# EAGLE library part 1998933 (library con-phoenix-1016)
PC 6-16/2-G1-10,16 Series
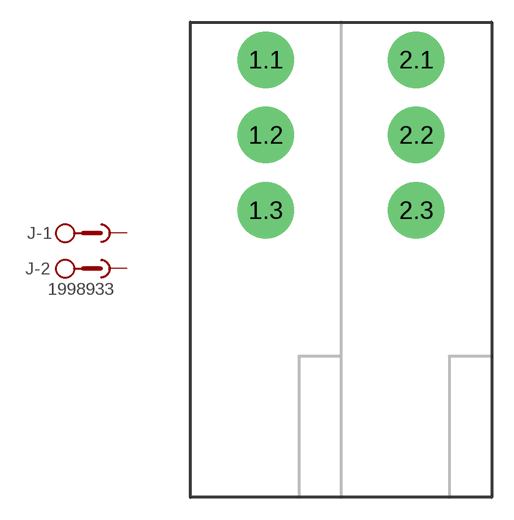
[diagram p0: symbol with the pads of 1998933; footprint 1998933]

Designator prefix J; gates -1=SKB3 -2=SKB3V

## 1998933  [1998933]
1.1  -1:1  pas
1.2  -1:2  pas
1.3  -1:3  pas
2.1  -2:1  pas
2.2  -2:2  pas
2.3  -2:3  pas

## Footprint 1998933 (pad centres in mm)
PC 6-16/ 2-G1-10,16
drill 1.778 pad 3.81: 1.1 -5.08,5.08; 1.2 -5.08,0; 1.3 -5.08,-5.08; 2.1 5.08,5.08; 2.2 5.08,0; 2.3 5.08,-5.08